# Altium footprint library CAP-ELECTRO-SPE-860040880011.PcbLib: 1 footprints
Each footprint in its own frame and in the unit in brackets; x right, y up, seen from the top. Pads: shape width x height; smd on the part's side, far side on the other; paste and mask are expansions set on the pad; w line width, h text height; cw(c..) or ccw(c..) is an arc to the next point about the centre after c.
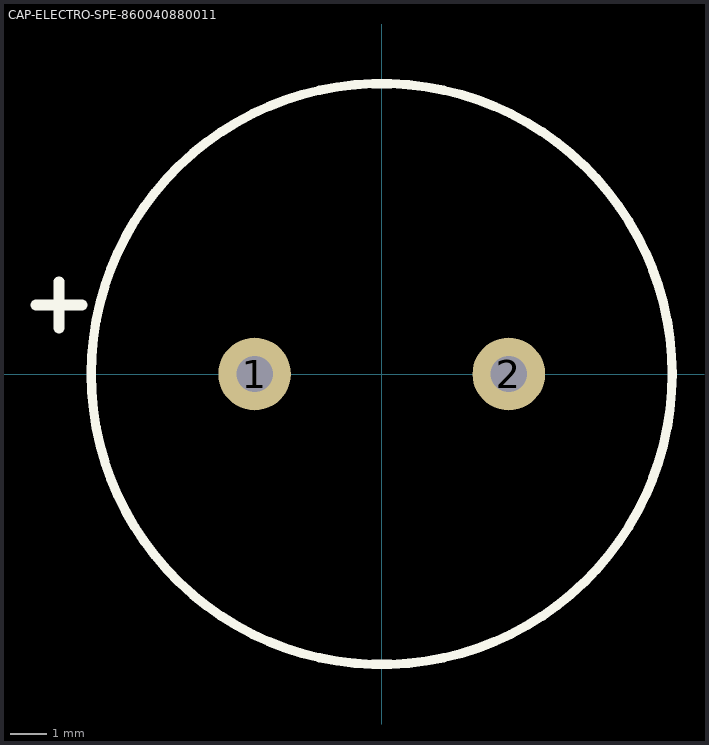
[diagram p0: the footprint, top view; thin cyan lines are the x and y axes]

## CAP-ELECTRO-SPE-860040880011 [mm]
height 35
pads (2):
  round 2 hole 1: 1(-3.5,0) 2(3.5,0)
Top Overlay:
  circle w0.254: c0,0 r8
  lines w0.3: -9.525,1.905 -8.255,1.905 ; -8.89,1.27 -8.89,2.54
3D body: height 35.3, standoff -1.2, extent -7.87,-7.851 8.124,8.125